# Altium schematic symbol library 293D107X9016D2TE3.SchLib: 1 symbol
Pins are listed as number, name and electrical type; pins without a type are passive.

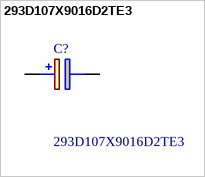
[diagram p0: symbol 293D107X9016D2TE3]

## 293D107X9016D2TE3
designator C?
Capacitor Tantalum SMT 293D 16V 100uF Vishay 100uF SMD Solid MnO2 Tantalum Electrolytic Capacitor, 16 V dc +/-10%, 293D Series; Geometry.Height: 3.1mm; Manufacturer_Name: Vishay; Manufacturer_Part_Number: 293D107X9016D2TE3; Mouser Part Number: 74-293D107X9016D2TE3; Mouser Price/Stock: https://www.mouser.co.uk/ProductDetail/Vishay-Sprague/293D107X9016D2TE3?qs=N31o%252Bt096gutRPoK822F8w%3D%3D; Arrow Part Number: 293D107X9016D2TE3; Arrow Price/Stock: https://www.arrow.com/en/products/293d107x9016d2te3/vishay?region=nac; Datasheet Link: http://www.vishay.com/docs/40002/293d.pdf
footprint CAPPM7343X310N
pins: 1 +, 2 -